# EAGLE library part 74LVC74 (library 1_spektrak)
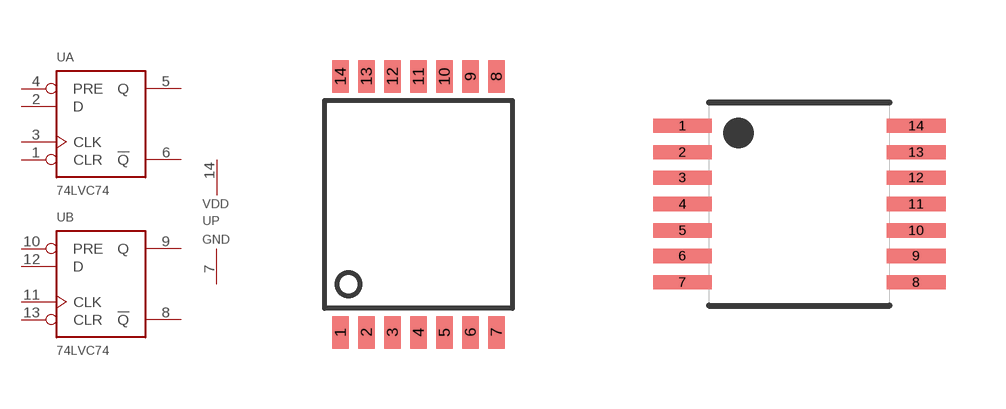
[diagram p24: symbol with the pads of TSSOP14_FF; footprints TSSOP14_FF, TSSOP14]

Designator prefix U; gates A=74LVC74 P=PWRGND B=74LVC74

## 74LVC74'OLD'  [TSSOP14_FF]
1  A:CLR  in
2  A:D  in
3  A:CLK  in
4  A:PRE  in
5  A:Q  out
6  A:!Q  out
7  P:GND  pwr
8  B:!Q  out
9  B:Q  out
10  B:PRE  in
11  B:CLK  in
12  B:D  in
13  B:CLR  in
14  P:VDD  pwr

## 74LVC74  [TSSOP14]
Pads as for TSSOP14_FF

## Footprint TSSOP14_FF (pad centres in mm)
smd 0.406 x 0.813: 1 -1.778,-3.048; 2 -1.128,-3.048; 3 -0.478,-3.048; 4 0.172,-3.048; 5 0.822,-3.048; 6 1.472,-3.048; 7 2.122,-3.048; 8 2.122,3.352; 9 1.472,3.352; 10 0.822,3.352; 11 0.172,3.352; 12 -0.478,3.352; 13 -1.128,3.352; 14 -1.778,3.352

## Footprint TSSOP14 (pad centres in mm)
smd 1.473 x 0.356: 1 -2.921,1.956; 2 -2.921,1.295; 3 -2.921,0.66; 4 -2.921,0; 5 -2.921,-0.66; 6 -2.921,-1.295; 7 -2.921,-1.956; 8 2.921,-1.956; 9 2.921,-1.295; 10 2.921,-0.66; 11 2.921,0; 12 2.921,0.66; 13 2.921,1.295; 14 2.921,1.956